# Altium footprint library L1.PcbLib: 2 footprints
Each footprint in its own frame and in the unit in brackets; x right, y up, seen from the top. Pads: shape width x height; smd on the part's side, far side on the other; paste and mask are expansions set on the pad; w line width, h text height; cw(c..) or ccw(c..) is an arc to the next point about the centre after c.
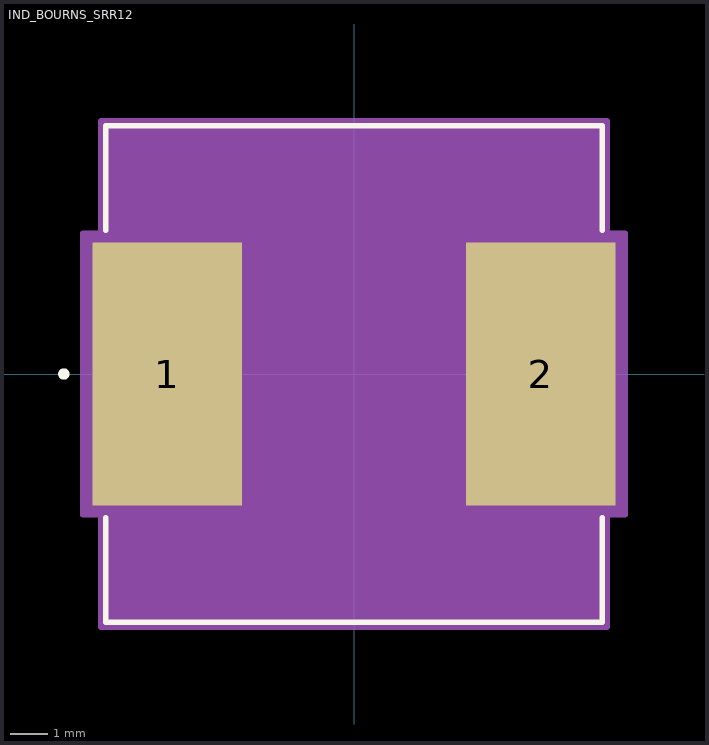
[diagram p0: the footprints below, top view; thin cyan lines are the x and y axes]

## IND_BOURNS_SRR12 [mil]
pads (2):
  rect 157x276 smd paste+0 mask+0: 1(-196.5,0) 2(196.5,0)
Top Overlay:
  circle w6: c-305,0 r3
  lines w6: -261,-151.1 -261,-261 261,-261 261,-151.1 ; -261,151.1 -261,261 261,261 261,151.1
Mechanical 13:
  circle w0: c-253,0 r3
  lines w1: -256,-256 -256,256 256,256 256,-256 -256,-256
Mechanical 15:
  region: -266,-148 -285,-148 -285,148 -266,148 -266,266 266,266 266,148 285,148 285,-148 266,-148 266,-266 -266,-266
  lines w6: -285,-148 -266,-148 -266,-266 266,-266 266,-148 285,-148 285,148 266,148 266,266 -266,266 -266,148 -285,148 -285,-148
3D body: height 10, standoff 0, extent 0,0 10,10

## PCBComponent_1 [mil]